# Altium footprint library Screws_Mounts.PcbLib: 4 footprints
Each footprint in its own frame and in the unit in brackets; x right, y up, seen from the top. Pads: shape width x height; smd on the part's side, far side on the other; paste and mask are expansions set on the pad; w line width, h text height; cw(c..) or ccw(c..) is an arc to the next point about the centre after c.
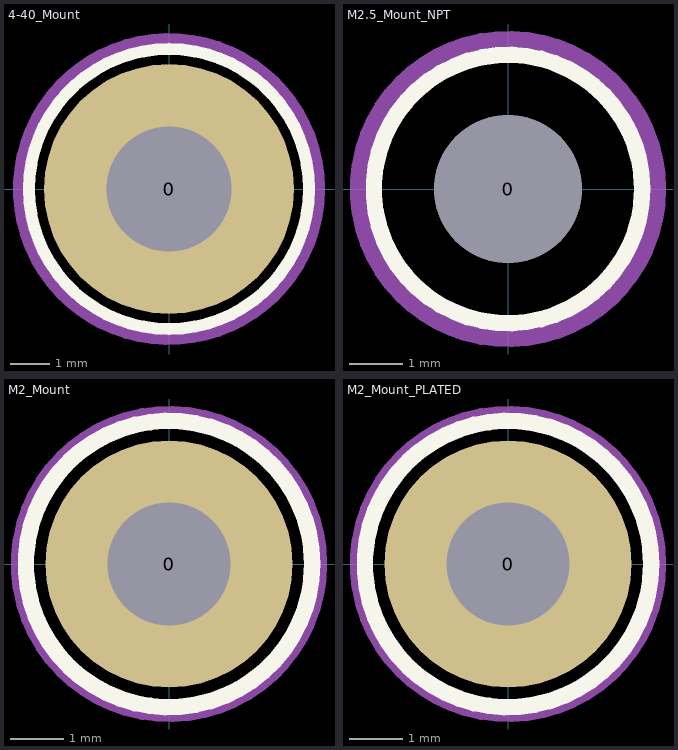
[diagram p0: the footprints below, top view; thin cyan lines are the x and y axes]

## 4-40_Mount [mm]
pads (1):
  round 6.35 hole 3.175: 0(0,0)
Top Overlay:
  circle w0.305: c0,0 r3.556
Mechanical 15:
  circle w0.305: c0,0 r3.81

## M2.5_Mount_NPT [mm]
pads (1):
  round 2.75 hole 2.75: 0(0,0)
Top Overlay:
  circle w0.305: c0,0 r2.5
Mechanical 15:
  circle w0.305: c0,0 r2.794

## M2_Mount [mm]
pads (1):
  round 4.6 hole 2.3: 0(0,0)
Top Overlay:
  circle w0.305: c0,0 r2.667
Mechanical 15:
  circle w0.305: c0,0 r2.794

## M2_Mount_PLATED [mm]
pads (1):
  round 4.6 hole 2.3: 0(0,0)
Top Overlay:
  circle w0.305: c0,0 r2.667
Mechanical 15:
  circle w0.305: c0,0 r2.794